# Altium footprint library QFN40P180X140X55-10L.PcbLib: 1 footprints
Each footprint in its own frame and in the unit in brackets; x right, y up, seen from the top. Pads: shape width x height; smd on the part's side, far side on the other; paste and mask are expansions set on the pad; w line width, h text height; cw(c..) or ccw(c..) is an arc to the next point about the centre after c.
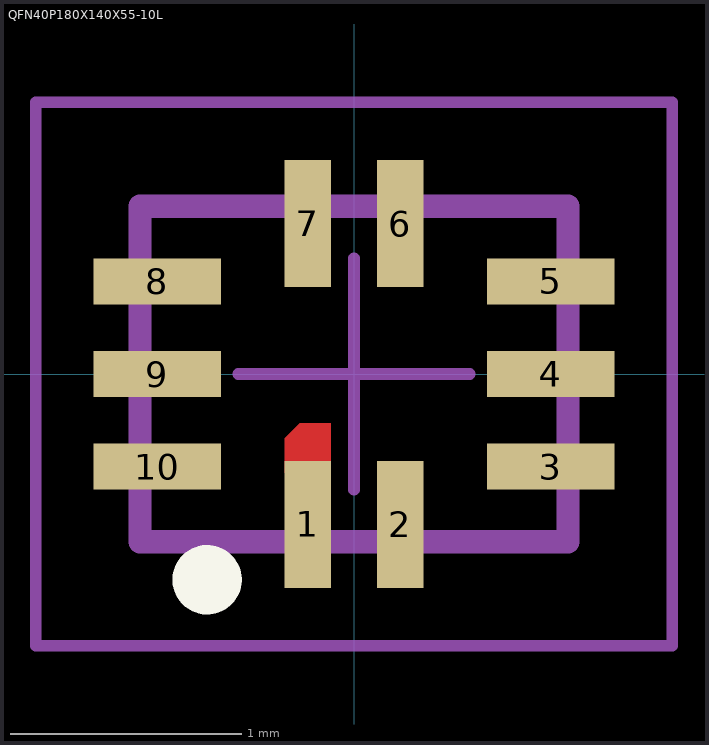
[diagram p0: the footprint, top view; thin cyan lines are the x and y axes]

## QFN40P180X140X55-10L [mm] "QFN, 10-Leads, Body 1.80x1.40mm, Pitch 0.40mm, IPC High Density"
height 0.55
pads (10):
  rect 0.2x0.55 smd: 1(-0.2,-0.65) 2(0.2,-0.65) 6(0.2,0.65) 7(-0.2,0.65)
  rect 0.55x0.2 smd: 3(0.85,-0.4) 4(0.85,0) 5(0.85,0.4) 8(-0.85,0.4) 9(-0.85,0) 10(-0.85,-0.4)
Top Layer:
  region: -0.1,-0.427 -0.1,-0.213 -0.235,-0.213 -0.3,-0.278 -0.3,-0.392 -0.3,-0.426 -0.101,-0.426 -0.101,-0.419
Top Overlay:
  circle w0.15: c-0.635,-0.889 r0.075
Mechanical 13:
  lines w0.1: -0.925,-0.725 0.925,-0.725 0.925,0.725 -0.925,0.725 -0.925,-0.725
Mechanical 15:
  lines w0.05: -0.5,0 0.5,0 ; 0,-0.5 0,0.5 ; -1.375,-1.175 1.375,-1.175 1.375,1.175 -1.375,1.175 -1.375,-1.175
3D body: height 0.55, standoff -0.03, extent -0.91,-0.71 0.91,0.71